# EAGLE library part DS1337 (library clock)
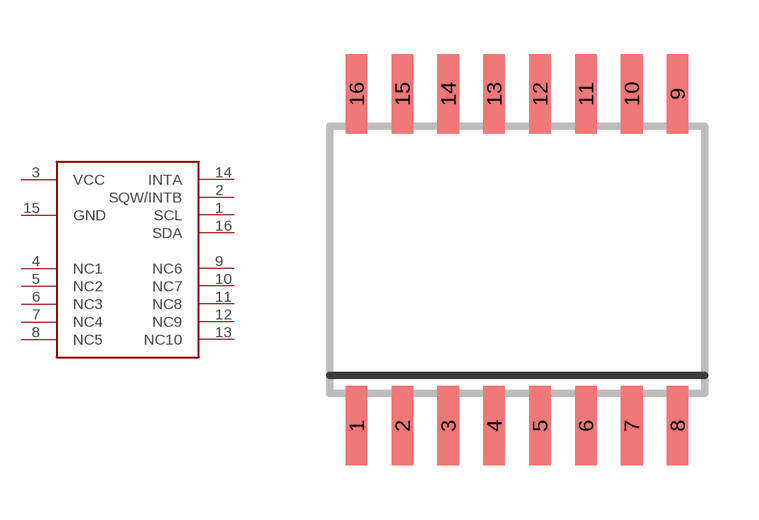
[diagram p1: symbol with the pads of SO-16DW; footprint SO-16DW]

Designator prefix -

## DS1337C  [SO-16DW]
1  SCL
2  SQW/INTB  out
3  VCC  pwr
4  NC1  nc
5  NC2  nc
6  NC3  nc
7  NC4  nc
8  NC5  nc
9  NC6  nc
10  NC7  nc
11  NC8  nc
12  NC9  nc
13  NC10  nc
14  INTA  out
15  GND  pwr
16  SDA  in

## Footprint SO-16DW (pad centres in mm)
DW (RPDSO-G16) Source: http://focus.ti.com/lit/ds/symlink/iso1176.pdf
smd 0.6 x 2.2: 1 -4.445,-4.6; 2 -3.175,-4.6; 3 -1.905,-4.6; 4 -0.635,-4.6; 5 0.635,-4.6; 6 1.905,-4.6; 7 3.175,-4.6; 8 4.445,-4.6; 9 4.445,4.6; 10 3.175,4.6; 11 1.905,4.6; 12 0.635,4.6; 13 -0.635,4.6; 14 -1.905,4.6; 15 -3.175,4.6; 16 -4.445,4.6